# Altium footprint library Transistors_Relays.PcbLib: 5 footprints
Each footprint in its own frame and in the unit in brackets; x right, y up, seen from the top. Pads: shape width x height; smd on the part's side, far side on the other; paste and mask are expansions set on the pad; w line width, h text height; cw(c..) or ccw(c..) is an arc to the next point about the centre after c.
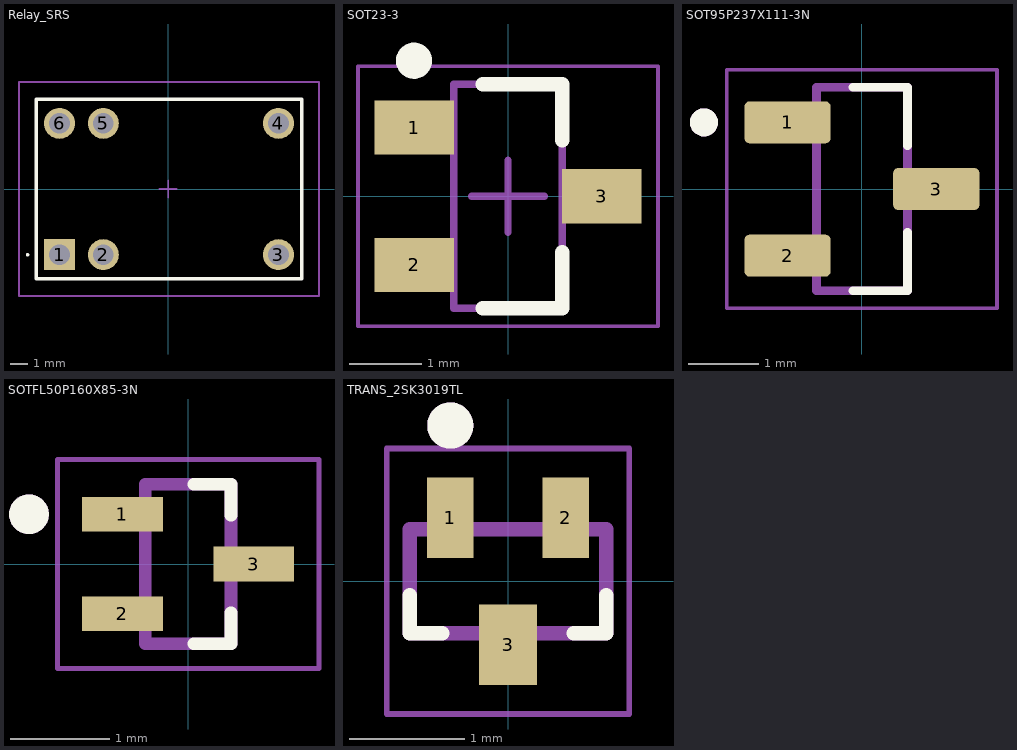
[diagram p0: the footprints below, top view; thin cyan lines are the x and y axes]

## Relay_SRS [mm]
pads (6):
  rect 1.8x1.8 hole 1.2: 1(-6.304,-3.81)
  round 1.8 hole 1.2: 2(-3.764,-3.81) 3(6.396,-3.81) 4(6.396,3.81) 5(-3.764,3.81) 6(-6.304,3.81)
Top Overlay:
  lines w0.1: -8.204,-3.81 ccw(c-8.154,-3.81) -8.104,-3.81 ccw(c-8.154,-3.81) -8.204,-3.81
  lines w0.2: -7.654,-5.2 -7.654,5.2 7.746,5.2 7.746,-5.2 -7.654,-5.2
Mechanical 13:
  lines w0.1: -7.654,-5.2 -7.654,5.2 7.746,5.2 7.746,-5.2 -7.654,-5.2
Mechanical 15:
  lines w0.1: -0.5,0 0.5,0 ; 0,-0.5 0,0.5 ; -8.654,-6.2 -8.654,6.2 8.746,6.2 8.746,-6.2 -8.654,-6.2
3D body "SRS-03VDC-SH.stp": height 11.7, standoff -5, extent -7.654,-5.2 7.746,5.2

## SOT23-3 [mm] "SOT23, 3-Leads, Body 2,95x2,45mm, Pitch 0,95mm, IPC Medium Density"
height 1.1
pads (3):
  rect 1.1x0.75 smd: 1(-1.3,0.95) 2(-1.3,-0.95) 3(1.3,0)
Top Overlay:
  circle w0.25: c-1.3,1.875 r0.125
  lines w0.2: -0.35,-1.55 0.75,-1.55 0.75,-0.775 ; -0.35,1.55 0.75,1.55 0.75,0.775
Mechanical 13:
  lines w0.1: -0.75,-1.55 -0.75,1.55 0.75,1.55 0.75,-1.55 -0.75,-1.55
Mechanical 15:
  lines w0.05: -2.075,-1.8 -2.075,1.8 2.075,1.8 2.075,-1.8 -2.075,-1.8
  lines w0.1: -0.5,0 0.5,0 ; 0,-0.5 0,0.5
3D body: height 1.1, standoff 0.05, extent -0.75,-1.55 0.75,1.55

## SOT95P237X111-3N [mm]
height 1.11
pads (3):
  rrect25% 1.23x0.6 smd paste+0 mask+0.102: 1(-1.06,0.95) 2(-1.06,-0.95) 3(1.06,0)
Top Overlay:
  circle w0.2: c-2.25,0.95 r0.1
  lines w0.127: -0.125,-1.45 0.65,-1.45 0.65,-0.62 ; -0.125,1.45 0.65,1.45 0.65,0.62
Mechanical 13:
  circle w0.2: c-2.25,0.95 r0.1
  lines w0.127: -0.65,-1.45 0.65,-1.45 0.65,1.45 -0.65,1.45 -0.65,-1.45
Mechanical 15:
  lines w0.05: -1.925,-1.7 1.925,-1.7 1.925,1.7 -1.925,1.7 -1.925,-1.7
3D body "step_temp.STEP": height 1.11, standoff 0, extent -1.2,-1.45 1.2,1.45

## SOTFL50P160X85-3N [mm]
height 0.85
pads (3):
  rect 0.81x0.35 smd: 1(-0.66,0.5) 2(-0.66,-0.5) 3(0.66,0)
Top Overlay:
  circle w0.2: c-1.6,0.5 r0.1
  lines w0.127: 0.058,-0.8 0.43,-0.8 0.43,-0.489 ; 0.058,0.8 0.43,0.8 0.43,0.489
Mechanical 13:
  circle w0.2: c-1.6,0.5 r0.1
  lines w0.127: -0.43,-0.8 -0.43,0.8 0.43,0.8 0.43,-0.8 -0.43,-0.8
Mechanical 15:
  lines w0.05: -1.315,-1.05 -1.315,1.05 1.315,1.05 1.315,-1.05 -1.315,-1.05
3D body "step_temp.STEP": height 0.85, standoff 0, extent -0.8,-0.8 0.8,0.8

## TRANS_2SK3019TL [mm]
pads (3):
  rect 0.4x0.7 smd: 1(-0.5,0.55) 2(0.5,0.55)
  rect 0.5x0.7 smd: 3(0,-0.55)
Top Overlay:
  circle w0.2: c-0.5,1.35 r0.1
  lines w0.127: -0.85,-0.12 -0.85,-0.45 -0.57,-0.45 ; 0.57,-0.45 0.85,-0.45 0.85,-0.12
Mechanical 13:
  circle w0.2: c-0.5,1.35 r0.1
  lines w0.127: -0.85,-0.45 -0.85,0.45 0.85,0.45 0.85,-0.45 -0.85,-0.45
Mechanical 15:
  lines w0.05: -1.05,-1.15 1.05,-1.15 1.05,1.15 -1.05,1.15 -1.05,-1.15
3D body "step_temp.STEP": height 0.8, standoff 0, extent -0.8,-0.8 0.8,0.8